# Altium footprint library LQFP64.PcbLib: 1 footprints
Each footprint in its own frame and in the unit in brackets; x right, y up, seen from the top. Pads: shape width x height; smd on the part's side, far side on the other; paste and mask are expansions set on the pad; w line width, h text height; cw(c..) or ccw(c..) is an arc to the next point about the centre after c.
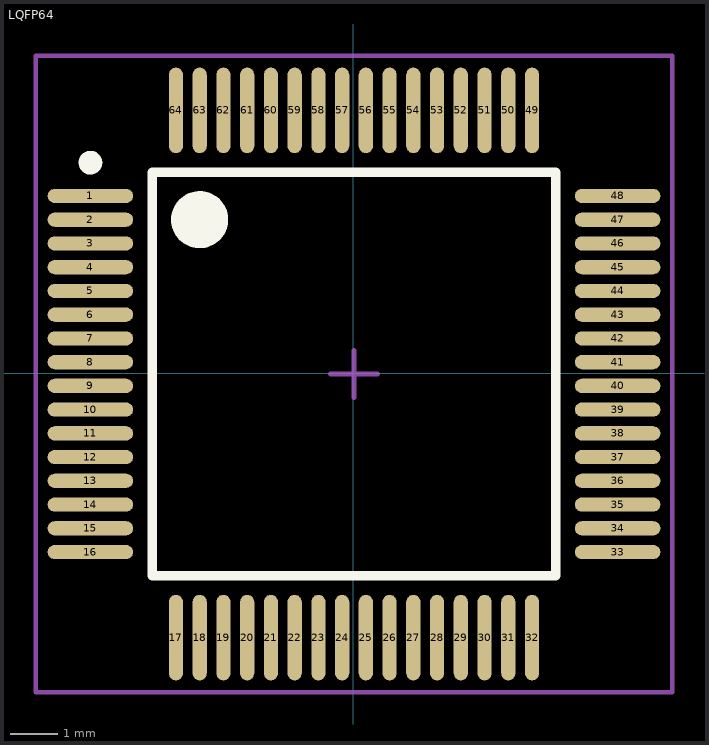
[diagram p0: the footprint, top view; thin cyan lines are the x and y axes]

## LQFP64 [mm]
pads (64):
  oval 1.8x0.3 smd: 1(-5.537,3.731) 2(-5.537,3.231) 3(-5.537,2.731) 4(-5.537,2.231) 5(-5.537,1.731) 6(-5.537,1.231) 7(-5.537,0.731) 8(-5.537,0.231) 9(-5.537,-0.269) 10(-5.537,-0.769) 11(-5.537,-1.269) 12(-5.537,-1.769) 13(-5.537,-2.269) 14(-5.537,-2.769) 15(-5.537,-3.269) 16(-5.537,-3.769) 33(5.563,-3.769) 34(5.563,-3.269) 35(5.563,-2.769) 36(5.563,-2.269) 37(5.563,-1.769) 38(5.563,-1.269) 39(5.563,-0.769) 40(5.563,-0.269) 41(5.563,0.231) 42(5.563,0.731) 43(5.563,1.231) 44(5.563,1.731) 45(5.563,2.231) 46(5.563,2.731) 47(5.563,3.231) 48(5.563,3.731)
  oval 0.3x1.8 smd: 17(-3.737,-5.569) 18(-3.237,-5.569) 19(-2.737,-5.569) 20(-2.237,-5.569) 21(-1.737,-5.569) 22(-1.237,-5.569) 23(-0.737,-5.569) 24(-0.237,-5.569) 25(0.263,-5.569) 26(0.763,-5.569) 27(1.263,-5.569) 28(1.763,-5.569) 29(2.263,-5.569) 30(2.763,-5.569) 31(3.263,-5.569) 32(3.763,-5.569) 49(3.763,5.531) 50(3.263,5.531) 51(2.763,5.531) 52(2.263,5.531) 53(1.763,5.531) 54(1.263,5.531) 55(0.763,5.531) 56(0.263,5.531) 57(-0.237,5.531) 58(-0.737,5.531) 59(-1.237,5.531) 60(-1.737,5.531) 61(-2.237,5.531) 62(-2.737,5.531) 63(-3.237,5.531) 64(-3.737,5.531)
Top Overlay:
  circle w0.25: c-5.537,4.431 r0.125
  circle w0.6: c-3.237,3.231 r0.3
  lines w0.2: -4.237,-4.269 -4.237,4.231 4.263,4.231 4.263,-4.269 -4.237,-4.269
Mechanical 15:
  lines w0.1: -0.487,-0.019 0.513,-0.019 ; 0.013,-0.519 0.013,0.481 ; -6.687,-6.719 -6.687,6.681 6.713,6.681 6.713,-6.719 -6.687,-6.719
3D body: height 1.7, standoff -0.01, extent -6.012,-5.999 5.988,6.001